# EAGLE library part FXAS2100CQR1 (library LinnesLab-Sensors)
EAGLE Device for FXAS2100CQR1 gyroscope. Footprint and symbol from SnapEDA. RSVD_GND pins are all tied together on Pin 6.
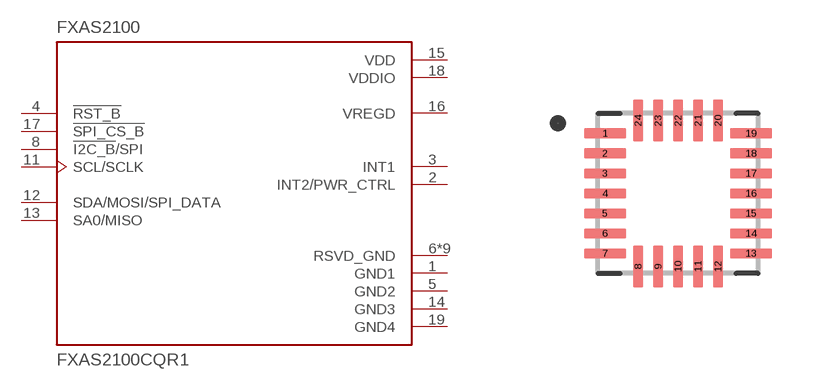
[diagram p20: symbol with the pads of FXAS21002CQR1; footprint FXAS21002CQR1]

Designator prefix FXAS2100

## FXAS2100CQR1  [FXAS21002CQR1]
1  GND1  pwr
2  INT2/PWR_CTRL
3  INT1  out
4  !RST_B  in
5  GND2  pwr
6  RSVD_GND  pwr
7  RSVD_GND  pwr
8  !I2C_B!/SPI  in
9  RSVD_GND  pwr
10  RSVD_GND  pwr
11  SCL/SCLK  in
12  SDA/MOSI/SPI_DATA
13  SA0/MISO
14  GND3  pwr
15  VDD  pwr
16  VREGD  out
17  !SPI_CS_B  in
18  VDDIO  pwr
19  GND4  pwr
20  RSVD_GND  pwr
21  RSVD_GND  pwr
22  RSVD_GND  pwr
23  RSVD_GND  pwr
24  RSVD_GND  pwr

## Footprint FXAS21002CQR1 (pad centres in mm)
smd 1.06 x 0.26: 1 -1.825,1.5; 2 -1.825,1; 3 -1.825,0.5; 4 -1.825,0; 5 -1.825,-0.5; 6 -1.825,-1; 7 -1.825,-1.5; 13 1.825,-1.5; 14 1.825,-1; 15 1.825,-0.5; 16 1.825,0; 17 1.825,0.5; 18 1.825,1; 19 1.825,1.5
smd 0.26 x 1.06: 8 -1,-1.825; 9 -0.5,-1.825; 10 0,-1.825; 11 0.5,-1.825; 12 1,-1.825; 20 1,1.825; 21 0.5,1.825; 22 0,1.825; 23 -0.5,1.825; 24 -1,1.825